# Altium schematic symbol library MAX30102.SchLib: 1 symbol
Pins are listed as number, name and electrical type; pins without a type are passive.

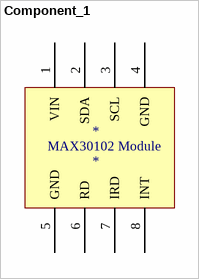
[diagram p0: symbol Component_1]

## Component_1
designator *
footprint MAX30102 Module
pins: 1 VIN, 2 SDA, 3 SCL, 4 GND, 5 GND, 6 RD, 7 IRD, 8 INT
text: MAX30102 Module